# Altium footprint library VSON-6 DRV.PcbLib: 1 footprints
Each footprint in its own frame and in the unit in brackets; x right, y up, seen from the top. Pads: shape width x height; smd on the part's side, far side on the other; paste and mask are expansions set on the pad; w line width, h text height; cw(c..) or ccw(c..) is an arc to the next point about the centre after c.
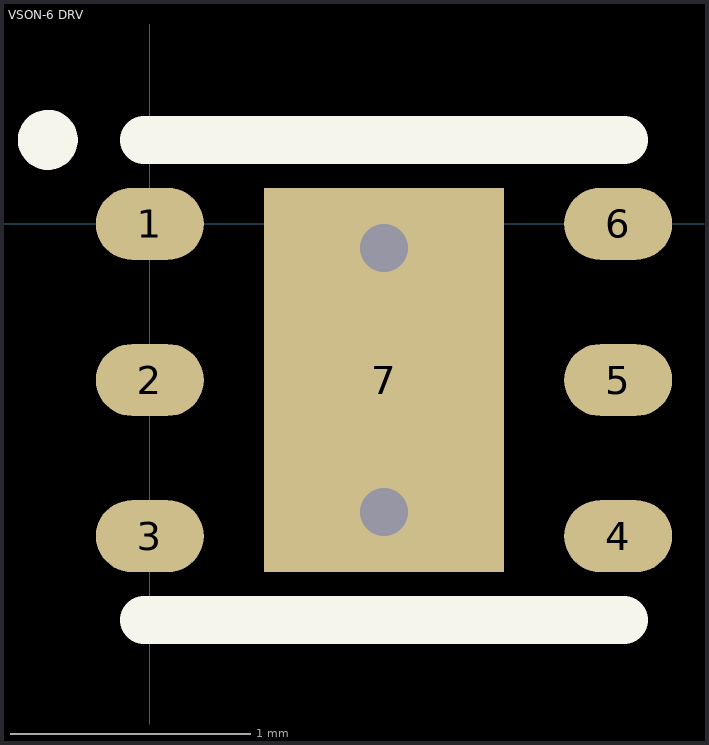
[diagram p0: the footprint, top view; thin cyan lines are the x and y axes]

## VSON-6 DRV [mm]
pads (7):
  oval 0.45x0.3 smd mask+0.07: 1(0,0) 2(0,-0.65) 3(0,-1.3) 4(1.95,-1.3) 5(1.95,-0.65) 6(1.95,0)
  rect 1x1.6 smd paste-1.17 mask+0.07: 7(0.975,-0.65)
via 0.975,-1.2 diameter 0.45 hole 0.2
via 0.975,-0.1 diameter 0.45 hole 0.2
Top Overlay:
  circle w0.15: c-0.425,0.35 r0.05
  lines w0.2: -0.025,-1.65 1.975,-1.65 ; -0.025,0.35 1.975,0.35
Top Paste:
  rectangle: 0.475,-0.55 1.475,0.15
  rectangle: 0.475,-1.45 1.475,-0.75
3D body "VSON-6 DRV.STEP": height 0.8, standoff 0, extent -0.075,-1.65 2.025,0.35